# EAGLE library part ADR441B (library Dmitry)
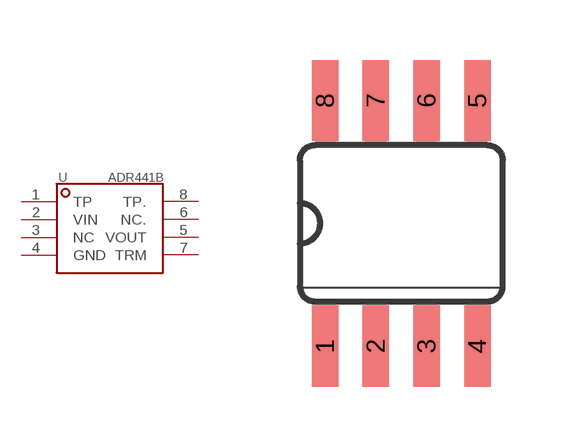
[diagram p24: symbol with the pads of SO08; footprint SO08]

Designator prefix U

## ADR441B  [SO08]
1  TP
2  VIN
3  NC
4  GND
5  VOUT
6  NC.
7  TRM
8  TP.

## Footprint SO08 (pad centres in mm)
Small Outline Package SOIC 150 mil
smd 0.66 x 2.032: 1 -1.905,-3.073; 2 -0.635,-3.073; 3 0.635,-3.073; 4 1.905,-3.073; 5 1.905,3.073; 6 0.635,3.073; 7 -0.635,3.073; 8 -1.905,3.073